# EAGLE library part OP37 (library 1000xopamp)
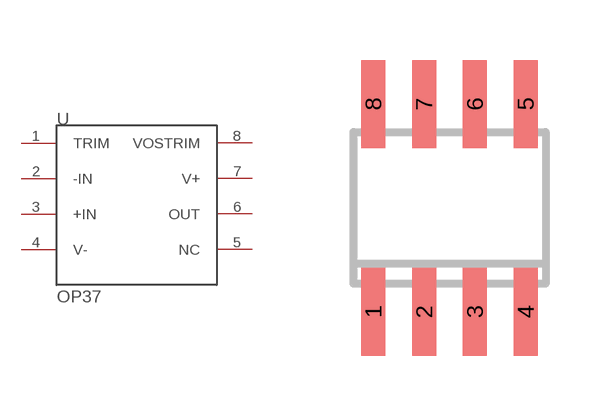
[diagram p0: symbol with the pads of SO08; footprint SO08]

Designator prefix -

## OP37  [SO08]
1  TRIM
2  -IN
3  +IN
4  V-
5  NC
6  OUT
7  V+
8  VOSTRIM

## Footprint SO08 (pad centres in mm)
smd 0.6 x 2.2: 1 -1.905,-2.6; 2 -0.635,-2.6; 3 0.635,-2.6; 4 1.905,-2.6; 5 1.905,2.6; 6 0.635,2.6; 7 -0.635,2.6; 8 -1.905,2.6